# Altium schematic symbol library Connector_3mm.SchLib: 1 symbol
Pins are listed as number, name and electrical type; pins without a type are passive.

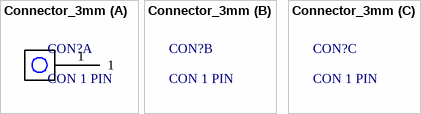
[diagram p0: symbol Connector_3mm]

## Connector_3mm
designator CON?, comment CON 1 PIN
footprint PCBComponent_1
part A pins: 1